# Altium footprint library MODULE_ESP32-H2-DEVKITM-1-N4.PcbLib: 1 footprints
Each footprint in its own frame and in the unit in brackets; x right, y up, seen from the top. Pads: shape width x height; smd on the part's side, far side on the other; paste and mask are expansions set on the pad; w line width, h text height; cw(c..) or ccw(c..) is an arc to the next point about the centre after c.
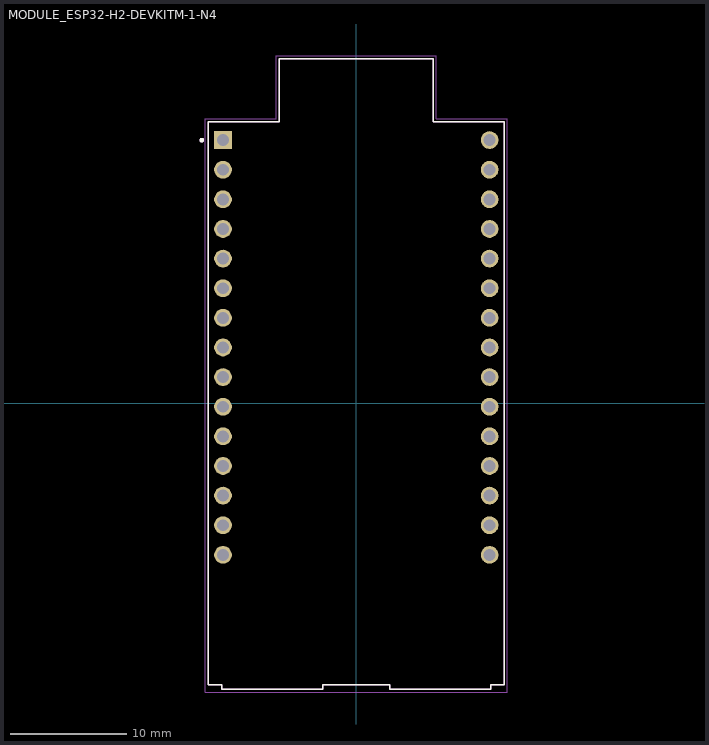
[diagram p0: the footprint, top view; thin cyan lines are the x and y axes]

## MODULE_ESP32-H2-DEVKITM-1-N4 [mil]
pads (30):
  rect 60x60 / inner round 60 / far side rect 60x60 hole 40: J1_1(-450,887.99)
  round 60 hole 40: J1_2(-450,787.99) J1_3(-450,687.99) J1_4(-450,587.99) J1_5(-450,487.99) J1_6(-450,387.99) J1_7(-450,287.99) J1_8(-450,187.99) J1_9(-450,87.99) J1_10(-450,-12.01) J1_11(-450,-112.01) J1_12(-450,-212.01) J1_13(-450,-312.01) J1_14(-450,-412.01) J1_15(-450,-512.01) J3_1(450,887.99) J3_2(450,787.99) J3_3(450,687.99) J3_4(450,587.99) J3_5(450,487.99) J3_6(450,387.99) J3_7(450,287.99) J3_8(450,187.99) J3_9(450,87.99) J3_10(450,-12.01) J3_11(450,-112.01) J3_12(450,-212.01) J3_13(450,-312.01) J3_14(450,-412.01) J3_15(450,-512.01)
Top Overlay:
  circle w7.87: c-521.65,887.99 r3.94
  lines w5: -500,-950 -453.74,-950 -453.74,-965.75 -113.19,-965.75 -113.19,-950 113.19,-950 113.19,-965.75 453.74,-965.75 453.74,-950 500,-950 500,950 259.84,950 259.84,1162.6 -259.84,1162.6 -259.84,950 -500,950 -500,-950
Mechanical 13:
  circle w7.87: c-521.65,887.99 r3.94
  lines w5: -500,-950 -453.74,-950 -453.74,-965.75 -113.19,-965.75 -113.19,-950 113.19,-950 113.19,-965.75 453.74,-965.75 453.74,-950 500,-950 500,950 259.84,950 259.84,1162.6 -259.84,1162.6 -259.84,950 -500,950 -500,-950
Mechanical 15:
  lines w1.97: -509.84,-975.59 509.84,-975.59 509.84,959.84 269.69,959.84 269.69,1172.44 -269.69,1172.44 -269.69,959.84 -509.84,959.84 -509.84,-975.59